# Altium schematic symbol library SS-12D10L3.SchLib: 1 symbol
Pins are listed as number, name and electrical type; pins without a type are passive.

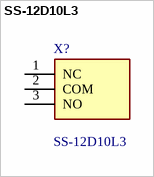
[diagram p0: symbol SS-12D10L3]

## SS-12D10L3
designator X?
Toggle switch, vertical foot two gears, plug, single row high temperature salt fog resistant 24 hours,13x6.8x6.4 flat black handle 3mm; Manufacturer_Name: XKB Connectivity; Geometry.Height: 9.6mm; Manufacturer_Part_Number: SS-12D10L3; Mouser Part Number: *; Mouser Price/Stock: *; Arrow Part Number: *; Arrow Price/Stock: *; Datasheet Link: http://www.helloxkb.com/public/images/pdf/SS-12D10XXX.pdf
footprint SS12D10L3
pins: 1 NC, 2 COM, 3 NO